# EAGLE library part ULN280X (library icmi-ics)
ULN2801A/ULN2802A/ULN2803A/ULN2804A/ULN2805A The ULN2801A-ULN2805Aeach contain eight darlington transistors with common emitters and integral suppression diodes for inductive loads. Each darlington features a peak load current rating of 600mA (500mA continuous) and can withstand at least 50V in the off state. Outputsmaybe paralleled for higher current capability. Five versions are available to simplify interfacing to standard logic families : the ULN2801Ais designed for generalpurpose applicationswith a current limit resistor; the ULN2802Ahas a 10.5kW inputresistor and zener for 14-25VPMOS; theULN2803A has a2.7kW input resistor for 5V TTL and CMOS ; the ULN2804A has a 10.5kW input resistor for 6-15V CMOS and the ULN2805A is designed to sink a minimum of 350mA for standard and Schottky TTL where higher output current is required.
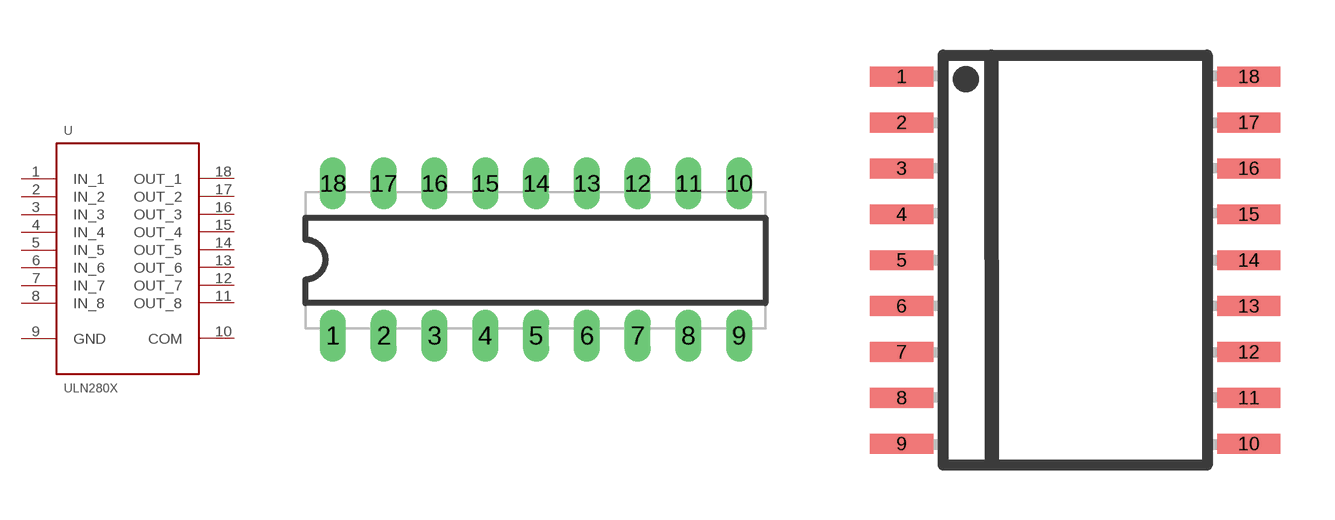
[diagram p1: symbol with the pads of DIP-18; footprints DIP-18, SO-18W]

Designator prefix -

## ULN280X-DIP18  [DIP-18]
1  IN_1  in
2  IN_2  in
3  IN_3  in
4  IN_4  in
5  IN_5  in
6  IN_6  in
7  IN_7  in
8  IN_8  in
9  GND  pwr
10  COM
11  OUT_8  out
12  OUT_7  out
13  OUT_6  out
14  OUT_5  out
15  OUT_4  out
16  OUT_3  out
17  OUT_2  out
18  OUT_1  out

## ULN280X-SO18  [SO-18W]
Pads as for DIP-18

## Footprint DIP-18 (pad centres in mm)
DIP-18
drill 0.8 long: 1 -10.16,-3.81; 2 -7.62,-3.81; 3 -5.08,-3.81; 4 -2.54,-3.81; 5 0,-3.81; 6 2.54,-3.81; 7 5.08,-3.81; 8 7.62,-3.81; 9 10.16,-3.81; 10 10.16,3.81; 11 7.62,3.81; 12 5.08,3.81; 13 2.54,3.81; 14 0,3.81; 15 -2.54,3.81; 16 -5.08,3.81; 17 -7.62,3.81; 18 -10.16,3.81

## Footprint SO-18W (pad centres in mm)
18-lead Small Outline Package Wide Body (0.3in / 7.5mm) SOIC18 (W) As referenced in http://www.microchip.com/packaging and http://www.maxim-ic.com/design/packaging/index.mvp?a=2&f= Used documents (may not be available anymore): http://pdfserv.maxim-ic.com/land_patterns/90-0181.PDF http://www.microchip.com/stellent/groups/techpub_sg/documents/packagingspec/en012702.pdf
smd 1.75 x 0.55: 1 -4.8,5.08; 2 -4.8,3.81; 3 -4.8,2.54; 4 -4.8,1.27; 5 -4.8,0; 6 -4.8,-1.27; 7 -4.8,-2.54; 8 -4.8,-3.81; 9 -4.8,-5.08; 10 4.8,-5.08; 11 4.8,-3.81; 12 4.8,-2.54; 13 4.8,-1.27; 14 4.8,0; 15 4.8,1.27; 16 4.8,2.54; 17 4.8,3.81; 18 4.8,5.08